# Altium schematic symbol library IN-MOSDRV-MCP1402-5.SchLib: 1 symbol
Pins are listed as number, name and electrical type; pins without a type are passive.

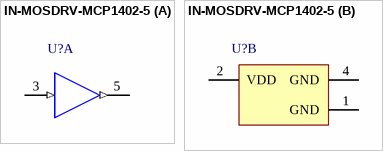
[diagram p0: symbol IN-MOSDRV-MCP1402-5]

## IN-MOSDRV-MCP1402-5
designator U?
part A pins: 3 IN (in), 5 OUT (out)
part B pins: 1 GND (power), 2 VDD (power), 4 GND (power)